# EAGLE library part TLC6C5912-Q1 (library 2016PowerPackLibraries)
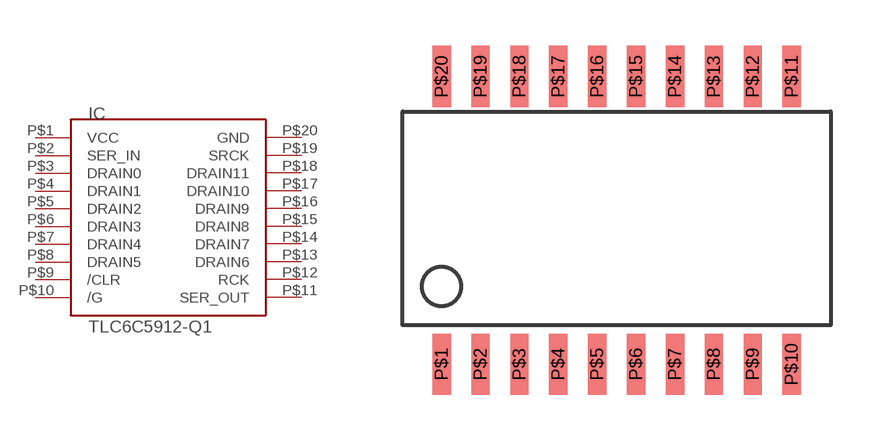
[diagram p1: symbol with the pads of SOIC-20; footprint SOIC-20]

Designator prefix IC

## TLC6C5912-Q1  [SOIC-20]
P$1  VCC
P$2  SER_IN
P$3  DRAIN0
P$4  DRAIN1
P$5  DRAIN2
P$6  DRAIN3
P$7  DRAIN4
P$8  DRAIN5
P$9  /CLR
P$10  /G
P$11  SER_OUT
P$12  RCK
P$13  DRAIN6
P$14  DRAIN7
P$15  DRAIN8
P$16  DRAIN9
P$17  DRAIN10
P$18  DRAIN11
P$19  SRCK
P$20  GND

## Footprint SOIC-20 (pad centres in mm)
smd 0.6 x 2: P$1 0,0; P$2 1.27,0; P$3 2.54,0; P$4 3.81,0; P$5 5.08,0; P$6 6.35,0; P$7 7.62,0; P$8 8.89,0; P$9 10.16,0; P$10 11.43,0; P$11 11.43,9.4; P$12 10.16,9.4; P$13 8.89,9.4; P$14 7.62,9.4; P$15 6.35,9.4; P$16 5.08,9.4; P$17 3.81,9.4; P$18 2.54,9.4; P$19 1.27,9.4; P$20 0,9.4